# Altium schematic symbol library Schlib1.SchLib: 3 symbols
Pins are listed as number, name and electrical type; pins without a type are passive.

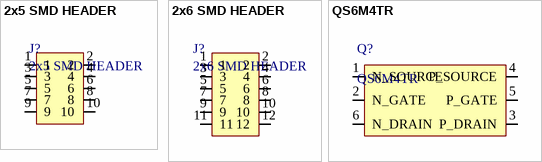
[diagram p0: symbols 2x5 SMD HEADER to QS6M4TR]

## 2x5 SMD HEADER
designator J?
footprint 2x5 SMD HEADER
pins: 1, 2, 3, 4, 5, 6, 7, 8, 9, 10

## 2x6 SMD HEADER
designator J?
footprint 2x6 SMD HEADER
pins: 1, 2, 3, 4, 5, 6, 7, 8, 9, 10, 11, 12

## QS6M4TR
designator Q?
pins: 1 N_SOURCE, 2 N_GATE, 3 P_DRAIN, 4 P_SOURCE, 5 P_GATE, 6 N_DRAIN